# Altium integrated library TSX_3225.IntLib: 1 symbol
Pins are listed as number, name and electrical type; pins without a type are passive.

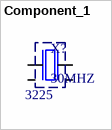
[diagram p0: symbol Component_1]

## Component_1
designator X?, comment 30MHZ  Component  Tag: 3225
Buying URL:: https://uk.rs-online.com/web/p/crystal-units/9047562/
pins: 1, 2 Gnd (power), 3, 4 Gnd (power)